# EAGLE library part DOTSTAR_5050 (library Dotstar)
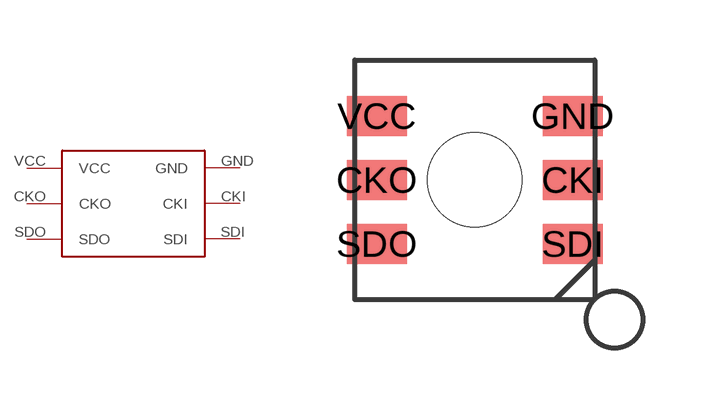
[diagram p0: symbol with the pads of DOTSTAR_5050; footprint DOTSTAR_5050]

Designator prefix -

## DOTSTAR_5050  [DOTSTAR_5050]
CKI  CKI
CKO  CKO
GND  GND
SDI  SDI
SDO  SDO
VCC  VCC

## Footprint DOTSTAR_5050 (pad centres in mm)
smd 1.5 x 1: CKI 2.45,0; CKO -2.45,0; GND 2.45,1.6; SDI 2.45,-1.6; SDO -2.45,-1.6; VCC -2.45,1.6